# Altium footprint library CD74HC4067.PcbLib: 1 footprints
Each footprint in its own frame and in the unit in brackets; x right, y up, seen from the top. Pads: shape width x height; smd on the part's side, far side on the other; paste and mask are expansions set on the pad; w line width, h text height; cw(c..) or ccw(c..) is an arc to the next point about the centre after c.
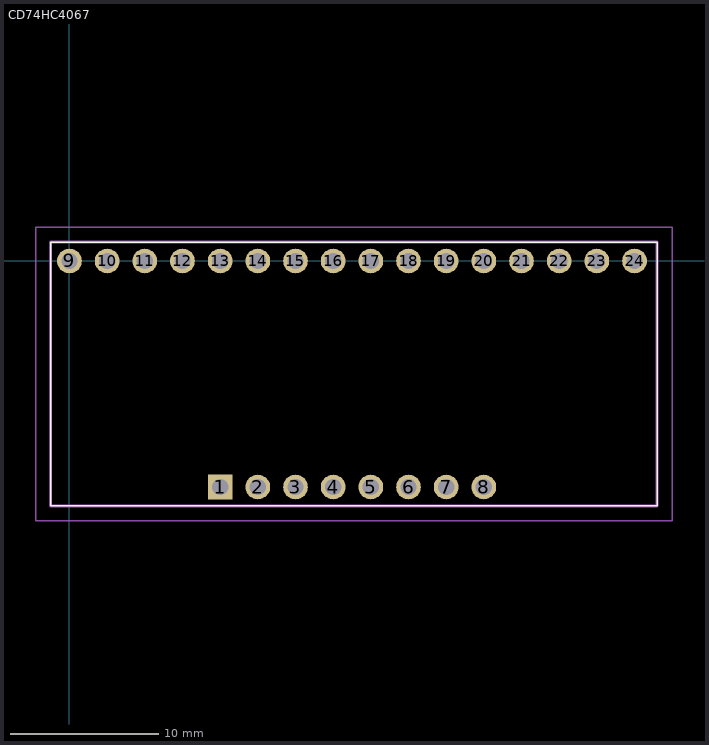
[diagram p0: the footprint, top view; thin cyan lines are the x and y axes]

## CD74HC4067 [mm]
pads (24):
  rect 1.665x1.665 hole 1.11: 1(10.16,-15.24)
  round 1.665 hole 1.11: 2(12.7,-15.24) 3(15.24,-15.24) 4(17.78,-15.24) 5(20.32,-15.24) 6(22.86,-15.24) 7(25.4,-15.24) 8(27.94,-15.24) 9(0,0) 10(2.54,0) 11(5.08,0) 12(7.62,0) 13(10.16,0) 14(12.7,0) 15(15.24,0) 16(17.78,0) 17(20.32,0) 18(22.86,0) 19(25.4,0) 20(27.94,0) 21(30.48,0) 22(33.02,0) 23(35.56,0) 24(38.1,0)
Top Overlay:
  lines w0.1: -1.27,-16.51 39.624,-16.51 39.624,1.27 -1.27,1.27 -1.27,-16.51
Mechanical 13:
  lines w0.2: -1.27,-16.51 39.624,-16.51 39.624,1.27 -1.27,1.27 -1.27,-16.51
Mechanical 15:
  lines w0.1: -2.27,-17.51 40.64,-17.51 40.64,2.27 -2.27,2.27 -2.27,-17.51
3D body "SCHEDINO MUX 16 CANALI.STEP": height 6.23, standoff 2.62, extent -1.45,-16.747 39.55,1.253
3D body "2.54X2_pinheader_male.SLDPRT": height 8.3, standoff -5.7, extent 34.29,-1.27 39.37,1.27
3D body "2.54X2_pinheader_male.SLDPRT": height 8.3, standoff -5.7, extent 29.21,-1.27 34.29,1.27
3D body "2.54X2_pinheader_male.SLDPRT": height 8.3, standoff -5.7, extent 24.13,-1.27 29.21,1.27
3D body "2.54X2_pinheader_male.SLDPRT": height 8.3, standoff -5.7, extent 19.05,-1.27 24.13,1.27
3D body "2.54X2_pinheader_male.SLDPRT": height 8.3, standoff -5.7, extent 13.97,-1.27 19.05,1.27
3D body "2.54X2_pinheader_male.SLDPRT": height 8.3, standoff -5.7, extent 8.89,-1.27 13.97,1.27
3D body "2.54X2_pinheader_male.SLDPRT": height 8.3, standoff -5.7, extent 3.81,-1.27 8.89,1.27
3D body "2.54X2_pinheader_male.SLDPRT": height 8.3, standoff -5.7, extent -1.27,-1.27 3.81,1.27
3D body "2.54X2_pinheader_male.SLDPRT": height 8.3, standoff -5.7, extent 24.13,-16.51 29.21,-13.97
3D body "2.54X2_pinheader_male.SLDPRT": height 8.3, standoff -5.7, extent 19.05,-16.51 24.13,-13.97
3D body "2.54X2_pinheader_male.SLDPRT": height 8.3, standoff -5.7, extent 13.97,-16.51 19.05,-13.97
3D body "2.54X2_pinheader_male.SLDPRT": height 8.3, standoff -5.7, extent 8.89,-16.51 13.97,-13.97